# Altium footprint library E-Lib.PcbLib: 36 footprints (part 3 of 3)
Each footprint in its own frame and in the unit in brackets; x right, y up, seen from the top. Pads: shape width x height; smd on the part's side, far side on the other; paste and mask are expansions set on the pad; w line width, h text height; cw(c..) or ccw(c..) is an arc to the next point about the centre after c.
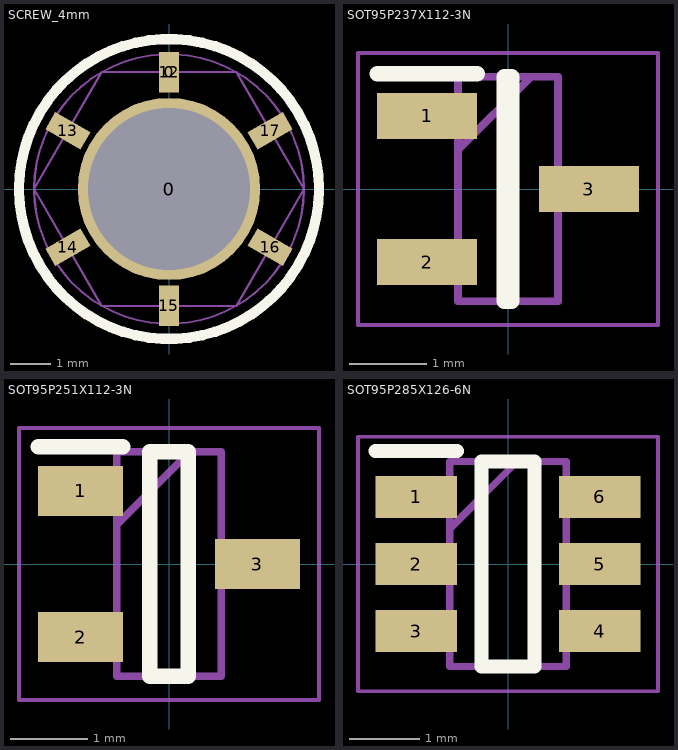
[diagram p2: the footprints below, top view; thin cyan lines are the x and y axes]

## SCREW_4mm [mm]
height 10.058
pads (8):
  round 4.5 hole 4 mask+0: 0(0,0)
  rect 0.5x1 smd: 0(0,2.881) 12(0,2.881) 15(0,-2.881)
  rect 0.5x1 smd rot 60: 13(-2.495,1.441) 16(2.495,-1.441)
  rect 0.5x1 smd rot 120: 14(-2.495,-1.441) 17(2.495,1.441)
Top Overlay:
  circle w0.254: c0,0 r3.7
Mechanical 13:
  circle w0.051: c0,0 r3.327
  lines w0.051: -3.327,0 -1.663,2.881 1.663,2.881 3.327,0 1.663,-2.881 -1.663,-2.881 -3.327,0

## SOT95P237X112-3N [mm]
pads (3):
  rect 1.3x0.6 smd: 1(-1.05,0.95) 2(-1.05,-0.95) 3(1.05,0)
Top Overlay:
  lines w0.2: -1.7,1.5 -0.4,1.5 ; -0.05,-1.46 -0.05,1.46 0.05,1.46 0.05,-1.46 -0.05,-1.46
Mechanical 13:
  lines w0.1: -0.65,0.51 0.3,1.46 ; -0.65,-1.46 -0.65,1.46 0.65,1.46 0.65,-1.46 -0.65,-1.46
Mechanical 15:
  lines w0.05: -1.95,-1.77 -1.95,1.77 1.95,1.77 1.95,-1.77 -1.95,-1.77
3D body "IRLML2502TRPBF.stp": height 1.12, standoff 0, extent -1.185,-1.46 1.185,1.46

## SOT95P251X112-3N [mm]
pads (3):
  rect 1.1x0.65 smd: 1(-1.15,0.95) 2(-1.15,-0.95) 3(1.15,0)
Top Overlay:
  lines w0.2: -1.7,1.525 -0.6,1.525 ; -0.25,-1.46 -0.25,1.46 0.25,1.46 0.25,-1.46 -0.25,-1.46
Mechanical 13:
  lines w0.1: -0.68,0.51 0.27,1.46 ; -0.68,-1.46 -0.68,1.46 0.68,1.46 0.68,-1.46 -0.68,-1.46
Mechanical 15:
  lines w0.05: -1.95,-1.77 -1.95,1.77 1.95,1.77 1.95,-1.77 -1.95,-1.77
3D body "FDN360P.stp": height 1.12, standoff 0, extent -1.255,-1.46 1.255,1.46

## SOT95P285X126-6N [mm]
pads (6):
  rect 1.15x0.6 smd: 1(-1.3,0.95) 2(-1.3,0) 3(-1.3,-0.95) 4(1.3,-0.95) 5(1.3,0) 6(1.3,0.95)
Top Overlay:
  lines w0.2: -1.875,1.6 -0.725,1.6 ; -0.375,-1.45 -0.375,1.45 0.375,1.45 0.375,-1.45 -0.375,-1.45
Mechanical 13:
  lines w0.1: -0.825,0.5 0.125,1.45 ; -0.825,-1.45 -0.825,1.45 0.825,1.45 0.825,-1.45 -0.825,-1.45
Mechanical 15:
  lines w0.05: -2.125,-1.8 -2.125,1.8 2.125,1.8 2.125,-1.8 -2.125,-1.8
3D body "TTP223BA6.stp": height 1.26, standoff 0, extent -1.425,-1.45 1.425,1.45